# Altium schematic symbol library DAC8562SDGST.SchLib: 1 symbol
Pins are listed as number, name and electrical type; pins without a type are passive.

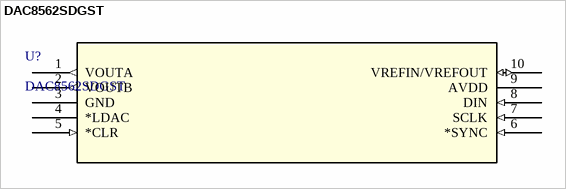
[diagram p0: symbol DAC8562SDGST]

## DAC8562SDGST
designator U?
16-bit, dual-channel, low-power, ultra-low glitch, voltage output DAC with 2.5V, 4ppm/Â°C reference 10-VSSOP -40 to 125; Manufacturer_Name: Texas Instruments; Copyright: Copyright (C) 2026 Ultra Librarian. All rights reserved.; Manufacturer_Part_Number: DAC8562SDGST; RefDes: RefDes; Type: Type
footprint DGS10
pins: 1 VOUTA (out), 2 VOUTB (out), 3 GND (power), 4 *LDAC, 5 *CLR (in), 6 *SYNC (in), 7 SCLK (in), 8 DIN (in), 9 AVDD (power), 10 VREFIN/VREFOUT (io)